# EAGLE library part SN74LVCH16T245DGGR (library 00_DatatrakEPROMEmu)
16-BIT DUAL-SUPPLY BUS TRANSCEIVER,TSSOP-48
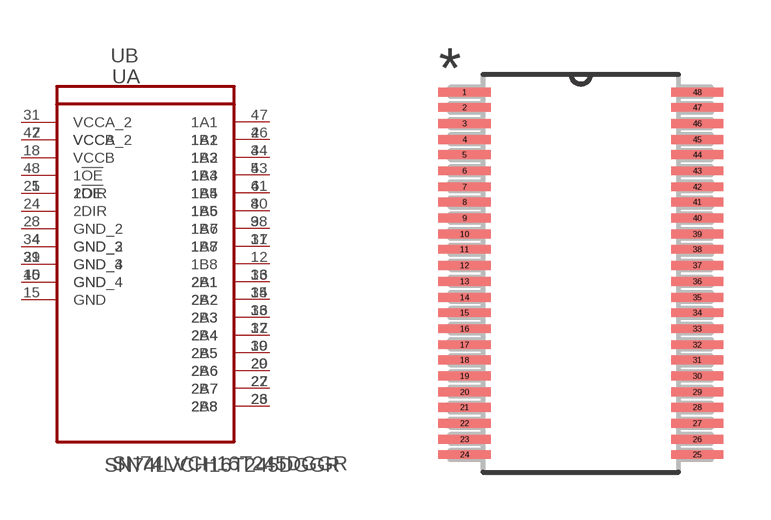
[diagram p0: symbol with the pads of SOP50P810X120-48N; footprint SOP50P810X120-48N]

Designator prefix U; gates A=SN74LVCH16T245DGGR_A B=SN74LVCH16T245DGGR_B

## SN74LVCH16T245DGGR (MPN: SN74LVCH16T245DGGR; OC_FARNELL: 2308692; OC_NEWARK: 58K6519; PACKAGE: TSSOP-48; SUPPLIER: TEXAS INSTRUMENTS)  [SOP50P810X120-48N]
1  A:1DIR  in
2  A:1B1  out
3  A:1B2  out
4  A:GND_2  pas
5  A:1B3  out
6  A:1B4  out
7  A:VCCB_2  pwr
8  A:1B5  out
9  A:1B6  out
10  A:GND_4  pas
11  A:1B7  out
12  A:1B8  out
13  A:2B1  out
14  A:2B2  out
15  A:GND  pas
16  A:2B3  out
17  A:2B4  out
18  A:VCCB  pwr
19  A:2B5  out
20  A:2B6  out
21  A:GND_3  pas
22  A:2B7  out
23  A:2B8  out
24  A:2DIR  in
25  B:2!OE  in
26  B:2A8  out
27  B:2A7  out
28  B:GND_2  pas
29  B:2A6  out
30  B:2A5  out
31  B:VCCA_2  pwr
32  B:2A4  out
33  B:2A3  out
34  B:GND_3  pas
35  B:2A2  out
36  B:2A1  out
37  B:1A8  out
38  B:1A7  out
39  B:GND_4  pas
40  B:1A6  out
41  B:1A5  out
42  B:VCCA  pwr
43  B:1A4  out
44  B:1A3  out
45  B:GND  pas
46  B:1A2  out
47  B:1A1  out
48  B:1!OE  in

## Footprint SOP50P810X120-48N (pad centres in mm)
smd 1.651 x 0.279: 1 -3.683,5.74; 2 -3.683,5.258; 3 -3.683,4.75; 4 -3.683,4.242; 5 -3.683,3.759; 6 -3.683,3.251; 7 -3.683,2.743; 8 -3.683,2.261; 9 -3.683,1.753; 10 -3.683,1.245; 11 -3.683,0.762; 12 -3.683,0.254; 13 -3.683,-0.254; 14 -3.683,-0.762; 15 -3.683,-1.245; 16 -3.683,-1.753; 17 -3.683,-2.261; 18 -3.683,-2.743; 19 -3.683,-3.251; 20 -3.683,-3.759; 21 -3.683,-4.242; 22 -3.683,-4.75; 23 -3.683,-5.258; 24 -3.683,-5.74; 25 3.683,-5.74; 26 3.683,-5.258; 27 3.683,-4.75; 28 3.683,-4.242; 29 3.683,-3.759; 30 3.683,-3.251; 31 3.683,-2.743; 32 3.683,-2.261; 33 3.683,-1.753; 34 3.683,-1.245; 35 3.683,-0.762; 36 3.683,-0.254; 37 3.683,0.254; 38 3.683,0.762; 39 3.683,1.245; 40 3.683,1.753; 41 3.683,2.261; 42 3.683,2.743; 43 3.683,3.251; 44 3.683,3.759; 45 3.683,4.242; 46 3.683,4.75; 47 3.683,5.258; 48 3.683,5.74